# Altium schematic symbol library Yageo.SchLib: 231 symbols (part 2 of 3)
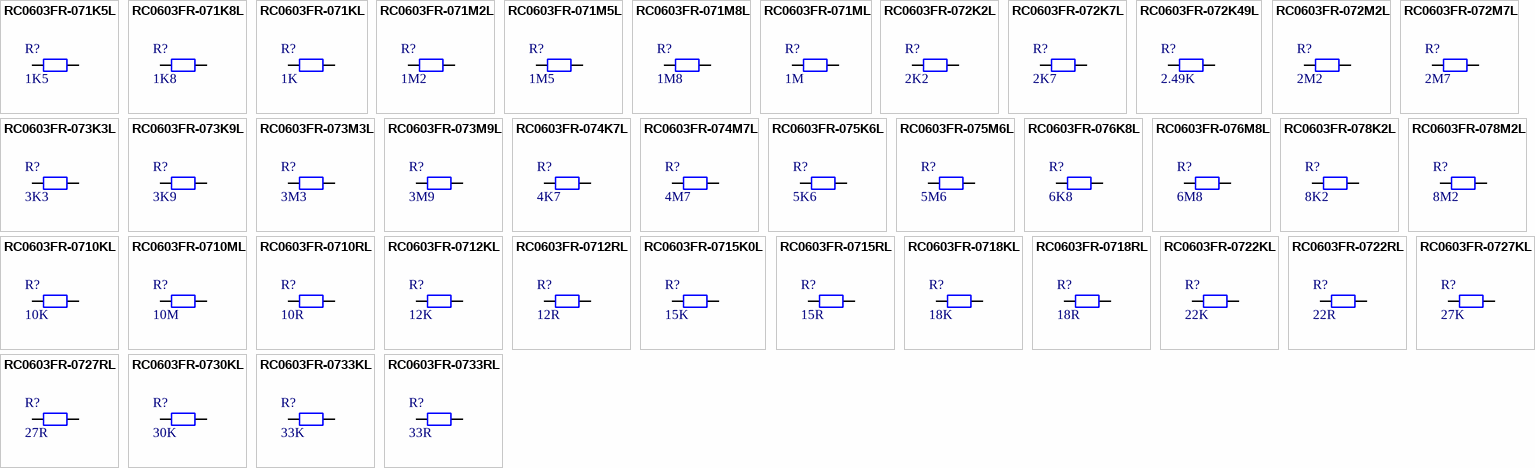
[diagram p6: symbols RC0603FR-071K5L to RC0603FR-0733RL]

## RC0603FR-072M2L
designator R?, comment 2M2
RES 2M2 SM0603 YAGEO RC_L; Manufacturer Part Number: RC0603FR-072M2L; Power (Watts): 0.1; Resistance (Ohms): 2200000; Tolerance (%): 1; Category: Resistor; Manufacturer: Yageo; Package: 0603; Value: 2M2; Supplier Part Number 1: 9238883; Supplier 1: Farnell; ComponentLink1URL: http://www.yageo.com; ComponentLink1Description: Manufacturer Website; Supplier 2: Digi-Key
footprint RES_SM0603_YAGEORC_N (Resistor, Yageo RC_L, SM0603, IPC Medium Density)
pins: 1, 2

## RC0603FR-072M7L
designator R?, comment 2M7
RES 2M7 SM0603 YAGEO RC_L; Manufacturer Part Number: RC0603FR-072M7L; Power (Watts): 0.1; Resistance (Ohms): 2700000; Tolerance (%): 1; Category: Resistor; Manufacturer: Yageo; Package: 0603; Value: 2M7; Supplier Part Number 1: 9238891; Supplier 1: Farnell; ComponentLink1URL: http://www.yageo.com; ComponentLink1Description: Manufacturer Website; Supplier 2: Digi-Key
footprint RES_SM0603_YAGEORC_N (Resistor, Yageo RC_L, SM0603, IPC Medium Density)
pins: 1, 2

## RC0603FR-073K3L
designator R?, comment 3K3
RES 3K3 SM0603 YAGEO RC_L; Manufacturer Part Number: RC0603FR-073K3L; Power (Watts): 0.1; Resistance (Ohms): 3300; Tolerance (%): 1; Category: Resistor; Manufacturer: Yageo; Package: 0603; Value: 3K3; Supplier Part Number 1: 9238549; Supplier 1: Farnell; ComponentLink1URL: http://www.yageo.com; ComponentLink1Description: Manufacturer Website; Supplier 2: Digi-Key; Supplier Part Number 2: 311-3.30KHRCT-ND
footprint RES_SM0603_YAGEORC_N (Resistor, Yageo RC_L, SM0603, IPC Medium Density)
pins: 1, 2

## RC0603FR-073K9L
designator R?, comment 3K9
RES 3K9 SM0603 YAGEO RC_L; Manufacturer Part Number: RC0603FR-073K9L; Power (Watts): 0.1; Resistance (Ohms): 3900; Tolerance (%): 1; Category: Resistor; Manufacturer: Yageo; Package: 0603; Value: 3K9; Supplier Part Number 1: 9238557; Supplier 1: Farnell; ComponentLink1URL: http://www.yageo.com; ComponentLink1Description: Manufacturer Website; Supplier 2: Digi-Key; Supplier Part Number 2: 311-3.90KHRCT-ND
footprint RES_SM0603_YAGEORC_N (Resistor, Yageo RC_L, SM0603, IPC Medium Density)
pins: 1, 2

## RC0603FR-073M3L
designator R?, comment 3M3
RES 3M3 SM0603 YAGEO RC_L; Manufacturer Part Number: RC0603FR-073M3L; Power (Watts): 0.1; Resistance (Ohms): 3300000; Tolerance (%): 1; Category: Resistor; Manufacturer: Yageo; Package: 0603; Value: 3M3; Supplier Part Number 1: 9238905; Supplier 1: Farnell; ComponentLink1URL: http://www.yageo.com; ComponentLink1Description: Manufacturer Website; Supplier 2: Digi-Key
footprint RES_SM0603_YAGEORC_N (Resistor, Yageo RC_L, SM0603, IPC Medium Density)
pins: 1, 2

## RC0603FR-073M9L
designator R?, comment 3M9
RES 3M9 SM0603 YAGEO RC_L; Manufacturer Part Number: RC0603FR-073M9L; Power (Watts): 0.1; Resistance (Ohms): 3900000; Tolerance (%): 1; Category: Resistor; Manufacturer: Yageo; Package: 0603; Value: 3M9; Supplier Part Number 1: 9238913; Supplier 1: Farnell; ComponentLink1URL: http://www.yageo.com; ComponentLink1Description: Manufacturer Website; Supplier 2: Digi-Key
footprint RES_SM0603_YAGEORC_N (Resistor, Yageo RC_L, SM0603, IPC Medium Density)
pins: 1, 2

## RC0603FR-074K7L
designator R?, comment 4K7
RES 4K7 SM0603 YAGEO RC_L; Manufacturer Part Number: RC0603FR-074K7L; Power (Watts): 0.1; Resistance (Ohms): 4700; Tolerance (%): 1; Category: Resistor; Manufacturer: Yageo; Package: 0603; Value: 4K7; Supplier Part Number 1: 9238565; Supplier 1: Farnell; ComponentLink1URL: http://www.yageo.com; ComponentLink1Description: Manufacturer Website; Supplier 2: Digi-Key; Supplier Part Number 2: 311-4.70KHRCT-ND
footprint RES_SM0603_YAGEORC_N (Resistor, Yageo RC_L, SM0603, IPC Medium Density)
pins: 1, 2

## RC0603FR-074M7L
designator R?, comment 4M7
RES 4M7 SM0603 YAGEO RC_L; Manufacturer Part Number: RC0603FR-074M7L; Power (Watts): 0.1; Resistance (Ohms): 4700000; Tolerance (%): 1; Category: Resistor; Manufacturer: Yageo; Package: 0603; Value: 4M7; Supplier Part Number 1: 9238921; Supplier 1: Farnell; ComponentLink1URL: http://www.yageo.com; ComponentLink1Description: Manufacturer Website; Supplier 2: Digi-Key; Supplier Part Number 2: 311-4.70MHRCT-ND
footprint RES_SM0603_YAGEORC_N (Resistor, Yageo RC_L, SM0603, IPC Medium Density)
pins: 1, 2

## RC0603FR-075K6L
designator R?, comment 5K6
RES 5K6 SM0603 YAGEO RC_L; Manufacturer Part Number: RC0603FR-075K6L; Power (Watts): 0.1; Resistance (Ohms): 5600; Tolerance (%): 1; Category: Resistor; Manufacturer: Yageo; Package: 0603; Value: 5K6; Supplier Part Number 1: 9238573; Supplier 1: Farnell; ComponentLink1URL: http://www.yageo.com; ComponentLink1Description: Manufacturer Website; Supplier 2: Digi-Key; Supplier Part Number 2: 311-5.60KHRCT-ND
footprint RES_SM0603_YAGEORC_N (Resistor, Yageo RC_L, SM0603, IPC Medium Density)
pins: 1, 2

## RC0603FR-075M6L
designator R?, comment 5M6
RES 5M6 SM0603 YAGEO RC_L; Manufacturer Part Number: RC0603FR-075M6L; Power (Watts): 0.1; Resistance (Ohms): 5600000; Tolerance (%): 1; Category: Resistor; Manufacturer: Yageo; Package: 0603; Value: 5M6; Supplier Part Number 1: 9238930; Supplier 1: Farnell; ComponentLink1URL: http://www.yageo.com; ComponentLink1Description: Manufacturer Website; Supplier 2: Digi-Key
footprint RES_SM0603_YAGEORC_N (Resistor, Yageo RC_L, SM0603, IPC Medium Density)
pins: 1, 2

## RC0603FR-076K8L
designator R?, comment 6K8
RES 6K8 SM0603 YAGEO RC_L; Manufacturer Part Number: RC0603FR-076K8L; Power (Watts): 0.1; Resistance (Ohms): 6800; Tolerance (%): 1; Category: Resistor; Manufacturer: Yageo; Package: 0603; Value: 6K8; Supplier Part Number 1: 9238581; Supplier 1: Farnell; ComponentLink1URL: http://www.yageo.com; ComponentLink1Description: Manufacturer Website; Supplier 2: Digi-Key; Supplier Part Number 2: 311-6.80KHRCT-ND
footprint RES_SM0603_YAGEORC_N (Resistor, Yageo RC_L, SM0603, IPC Medium Density)
pins: 1, 2

## RC0603FR-076M8L
designator R?, comment 6M8
RES 6M8 SM0603 YAGEO RC_L; Manufacturer Part Number: RC0603FR-076M8L; Power (Watts): 0.1; Resistance (Ohms): 6800000; Tolerance (%): 1; Category: Resistor; Manufacturer: Yageo; Package: 0603; Value: 6M8; Supplier Part Number 1: 9238948; Supplier 1: Farnell; ComponentLink1URL: http://www.yageo.com; ComponentLink1Description: Manufacturer Website; Supplier 2: Digi-Key
footprint RES_SM0603_YAGEORC_N (Resistor, Yageo RC_L, SM0603, IPC Medium Density)
pins: 1, 2

## RC0603FR-078K2L
designator R?, comment 8K2
RES 8K2 SM0603 YAGEO RC_L; Manufacturer Part Number: RC0603FR-078K2L; Power (Watts): 0.1; Resistance (Ohms): 8200; Tolerance (%): 1; Category: Resistor; Manufacturer: Yageo; Package: 0603; Value: 8K2; Supplier Part Number 1: 9238590; Supplier 1: Farnell; ComponentLink1URL: http://www.yageo.com; ComponentLink1Description: Manufacturer Website; Supplier 2: Digi-Key; Supplier Part Number 2: 311-8.20KHRCT-ND
footprint RES_SM0603_YAGEORC_N (Resistor, Yageo RC_L, SM0603, IPC Medium Density)
pins: 1, 2

## RC0603FR-078M2L
designator R?, comment 8M2
RES 8M2 SM0603 YAGEO RC_L; Manufacturer Part Number: RC0603FR-078M2L; Power (Watts): 0.1; Resistance (Ohms): 8200000; Tolerance (%): 1; Category: Resistor; Manufacturer: Yageo; Package: 0603; Value: 8M2; Supplier Part Number 1: 9238956; Supplier 1: Farnell; ComponentLink1URL: http://www.yageo.com; ComponentLink1Description: Manufacturer Website; Supplier 2: Digi-Key
footprint RES_SM0603_YAGEORC_N (Resistor, Yageo RC_L, SM0603, IPC Medium Density)
pins: 1, 2

## RC0603FR-0710KL
designator R?, comment 10K
RES 10K SM0603 YAGEO RC_L; Manufacturer Part Number: RC0603FR-0710KL; Power (Watts): 0.1; Resistance (Ohms): 10000; Tolerance (%): 1; Category: Resistor; Manufacturer: Yageo; Package: 0603; Value: 10K; Supplier Part Number 1: 9238603; Supplier 1: Farnell; ComponentLink1URL: http://www.yageo.com; ComponentLink1Description: Manufacturer Website; Supplier 2: Digi-Key; Supplier Part Number 2: 311-10.0KHRCT-ND
footprint RES_SM0603_YAGEORC_N (Resistor, Yageo RC_L, SM0603, IPC Medium Density)
pins: 1, 2

## RC0603FR-0710ML
designator R?, comment 10M
RES 10M SM0603 YAGEO RC_L; Manufacturer Part Number: RC0603FR-0710ML; Power (Watts): 0.1; Resistance (Ohms): 10000000; Tolerance (%): 1; Category: Resistor; Manufacturer: Yageo; Package: 0603; Value: 10M; Supplier Part Number 1: 9238964; Supplier 1: Farnell; ComponentLink1URL: http://www.yageo.com; ComponentLink1Description: Manufacturer Website; Supplier 2: Digi-Key; Supplier Part Number 2: 311-10.0MHRCT-ND
footprint RES_SM0603_YAGEORC_N (Resistor, Yageo RC_L, SM0603, IPC Medium Density)
pins: 1, 2

## RC0603FR-0710RL
designator R?, comment 10R
RES 10R SM0603 YAGEO RC_L; Manufacturer Part Number: RC0603FR-0710RL; Power (Watts): 0.1; Resistance (Ohms): 10; Tolerance (%): 1; Category: Resistor; Manufacturer: Yageo; Package: 0603; Value: 10R; Supplier Part Number 1: 9238247; Supplier 1: Farnell; ComponentLink1URL: http://www.yageo.com; ComponentLink1Description: Manufacturer Website; Supplier 2: Digi-Key; Supplier Part Number 2: 311-10.0HRCT-ND
footprint RES_SM0603_YAGEORC_N (Resistor, Yageo RC_L, SM0603, IPC Medium Density)
pins: 1, 2

## RC0603FR-0712KL
designator R?, comment 12K
RES 12K SM0603 YAGEO RC_L; Manufacturer Part Number: RC0603FR-0712KL; Power (Watts): 0.1; Resistance (Ohms): 12000; Tolerance (%): 1; Category: Resistor; Manufacturer: Yageo; Package: 0603; Value: 12K; Supplier Part Number 1: 9238611; Supplier 1: Farnell; ComponentLink1URL: http://www.yageo.com; ComponentLink1Description: Manufacturer Website; Supplier 2: Digi-Key; Supplier Part Number 2: 311-12.0KHRCT-ND
footprint RES_SM0603_YAGEORC_N (Resistor, Yageo RC_L, SM0603, IPC Medium Density)
pins: 1, 2

## RC0603FR-0712RL
designator R?, comment 12R
RES 12R SM0603 YAGEO RC_L; Manufacturer Part Number: RC0603FR-0712RL; Power (Watts): 0.1; Resistance (Ohms): 12; Tolerance (%): 1; Category: Resistor; Manufacturer: Yageo; Package: 0603; Value: 12R; Supplier Part Number 1: 9238255; Supplier 1: Farnell; ComponentLink1URL: http://www.yageo.com; ComponentLink1Description: Manufacturer Website; Supplier 2: Digi-Key; Supplier Part Number 2: 311-12.0HRCT-ND
footprint RES_SM0603_YAGEORC_N (Resistor, Yageo RC_L, SM0603, IPC Medium Density)
pins: 1, 2

## RC0603FR-0715K0L
designator R?, comment 15K
RES 15K SM0603 YAGEO RC_L; Manufacturer Part Number: RC0603FR-0715K0L; Power (Watts): 0.1; Resistance (Ohms): 15000; Tolerance (%): 1; Category: Resistor; Manufacturer: Yageo; Package: 0603; Value: 15K; Supplier Part Number 1: 9238620; Supplier 1: Farnell; ComponentLink1URL: http://www.yageo.com; ComponentLink1Description: Manufacturer Website; Supplier 2: Digi-Key
footprint RES_SM0603_YAGEORC_N (Resistor, Yageo RC_L, SM0603, IPC Medium Density)
pins: 1, 2

## RC0603FR-0715RL
designator R?, comment 15R
RES 15R SM0603 YAGEO RC_L; Manufacturer Part Number: RC0603FR-0715RL; Power (Watts): 0.1; Resistance (Ohms): 15; Tolerance (%): 1; Category: Resistor; Manufacturer: Yageo; Package: 0603; Value: 15R; Supplier Part Number 1: 9238263; Supplier 1: Farnell; ComponentLink1URL: http://www.yageo.com; ComponentLink1Description: Manufacturer Website; Supplier 2: Digi-Key; Supplier Part Number 2: 311-15.0HRCT-ND
footprint RES_SM0603_YAGEORC_N (Resistor, Yageo RC_L, SM0603, IPC Medium Density)
pins: 1, 2

## RC0603FR-0718KL
designator R?, comment 18K
RES 18K SM0603 YAGEO RC_L; Manufacturer Part Number: RC0603FR-0718KL; Power (Watts): 0.1; Resistance (Ohms): 18000; Tolerance (%): 1; Category: Resistor; Manufacturer: Yageo; Package: 0603; Value: 18K; Supplier Part Number 1: 9238638; Supplier 1: Farnell; ComponentLink1URL: http://www.yageo.com; ComponentLink1Description: Manufacturer Website; Supplier 2: Digi-Key; Supplier Part Number 2: 311-18.0KHRCT-ND
footprint RES_SM0603_YAGEORC_N (Resistor, Yageo RC_L, SM0603, IPC Medium Density)
pins: 1, 2

## RC0603FR-0718RL
designator R?, comment 18R
RES 18R SM0603 YAGEO RC_L; Manufacturer Part Number: RC0603FR-0718RL; Power (Watts): 0.1; Resistance (Ohms): 18; Tolerance (%): 1; Category: Resistor; Manufacturer: Yageo; Package: 0603; Value: 18R; Supplier Part Number 1: 9238271; Supplier 1: Farnell; ComponentLink1URL: http://www.yageo.com; ComponentLink1Description: Manufacturer Website; Supplier 2: Digi-Key; Supplier Part Number 2: 311-18.0HRCT-ND
footprint RES_SM0603_YAGEORC_N (Resistor, Yageo RC_L, SM0603, IPC Medium Density)
pins: 1, 2

## RC0603FR-0722KL
designator R?, comment 22K
RES 22K SM0603 YAGEO RC_L; Manufacturer Part Number: RC0603FR-0722KL; Power (Watts): 0.1; Resistance (Ohms): 22000; Tolerance (%): 1; Category: Resistor; Manufacturer: Yageo; Package: 0603; Value: 22K; Supplier Part Number 1: 9238646; Supplier 1: Farnell; ComponentLink1URL: http://www.yageo.com; ComponentLink1Description: Manufacturer Website; Supplier 2: Digi-Key; Supplier Part Number 2: 311-22.0KHRCT-ND
footprint RES_SM0603_YAGEORC_N (Resistor, Yageo RC_L, SM0603, IPC Medium Density)
pins: 1, 2

## RC0603FR-0722RL
designator R?, comment 22R
RES 22R SM0603 YAGEO RC_L; Manufacturer Part Number: RC0603FR-0722RL; Power (Watts): 0.1; Resistance (Ohms): 22; Tolerance (%): 1; Category: Resistor; Manufacturer: Yageo; Package: 0603; Value: 22R; Supplier Part Number 1: 9238280; Supplier 1: Farnell; ComponentLink1URL: http://www.yageo.com; ComponentLink1Description: Manufacturer Website; Supplier 2: Digi-Key; Supplier Part Number 2: 311-22.0HRCT-ND
footprint RES_SM0603_YAGEORC_N (Resistor, Yageo RC_L, SM0603, IPC Medium Density)
pins: 1, 2

## RC0603FR-0727KL
designator R?, comment 27K
RES 27K SM0603 YAGEO RC_L; Manufacturer Part Number: RC0603FR-0727KL; Power (Watts): 0.1; Resistance (Ohms): 27000; Tolerance (%): 1; Category: Resistor; Manufacturer: Yageo; Package: 0603; Value: 27K; Supplier Part Number 1: 9238654; Supplier 1: Farnell; ComponentLink1URL: http://www.yageo.com; ComponentLink1Description: Manufacturer Website; Supplier 2: Digi-Key; Supplier Part Number 2: 311-27.0KHRCT-ND
footprint RES_SM0603_YAGEORC_N (Resistor, Yageo RC_L, SM0603, IPC Medium Density)
pins: 1, 2

## RC0603FR-0727RL
designator R?, comment 27R
RES 27R SM0603 YAGEO RC_L; Manufacturer Part Number: RC0603FR-0727RL; Power (Watts): 0.1; Resistance (Ohms): 27; Tolerance (%): 1; Category: Resistor; Manufacturer: Yageo; Package: 0603; Value: 27R; Supplier Part Number 1: 9238298; Supplier 1: Farnell; ComponentLink1URL: http://www.yageo.com; ComponentLink1Description: Manufacturer Website; Supplier 2: Digi-Key; Supplier Part Number 2: 311-27.0HRCT-ND
footprint RES_SM0603_YAGEORC_N (Resistor, Yageo RC_L, SM0603, IPC Medium Density)
pins: 1, 2

## RC0603FR-0730KL
designator R?, comment 30K
RES 30K SM0603 YAGEO RC_L; Manufacturer Part Number: RC0603FR-0730KL; Power (Watts): 0.1; Resistance (Ohms): 30000; Tolerance (%): 1; Category: Resistor; Manufacturer: Yageo; Package: 0603; Value: 30K; Supplier Part Number 1: 9238662; Supplier 1: Farnell; ComponentLink1URL: http://www.yageo.com; ComponentLink1Description: Manufacturer Website; Supplier 2: Digi-Key; Supplier Part Number 2: 311-33.0KHRCT-ND
footprint RES_SM0603_YAGEORC_N (Resistor, Yageo RC_L, SM0603, IPC Medium Density)
pins: 1, 2

## RC0603FR-0733KL
designator R?, comment 33K
RES 33K SM0603 YAGEO RC_L; Manufacturer Part Number: RC0603FR-0733KL; Power (Watts): 0.1; Resistance (Ohms): 33000; Tolerance (%): 1; Category: Resistor; Manufacturer: Yageo; Package: 0603; Value: 33K; Supplier Part Number 1: 9238662; Supplier 1: Farnell; ComponentLink1URL: http://www.yageo.com; ComponentLink1Description: Manufacturer Website; Supplier 2: Digi-Key; Supplier Part Number 2: 311-33.0KHRCT-ND
footprint RES_SM0603_YAGEORC_N (Resistor, Yageo RC_L, SM0603, IPC Medium Density)
pins: 1, 2

## RC0603FR-0733RL
designator R?, comment 33R
RES 33R SM0603 YAGEO RC_L; Manufacturer Part Number: RC0603FR-0733RL; Power (Watts): 0.1; Resistance (Ohms): 33; Tolerance (%): 1; Category: Resistor; Manufacturer: Yageo; Package: 0603; Value: 33R; Supplier Part Number 1: 9238301; Supplier 1: Farnell; ComponentLink1URL: http://www.yageo.com; ComponentLink1Description: Manufacturer Website; Supplier 2: Digi-Key; Supplier Part Number 2: 311-33.0HRCT-ND
footprint RES_SM0603_YAGEORC_N (Resistor, Yageo RC_L, SM0603, IPC Medium Density)
pins: 1, 2

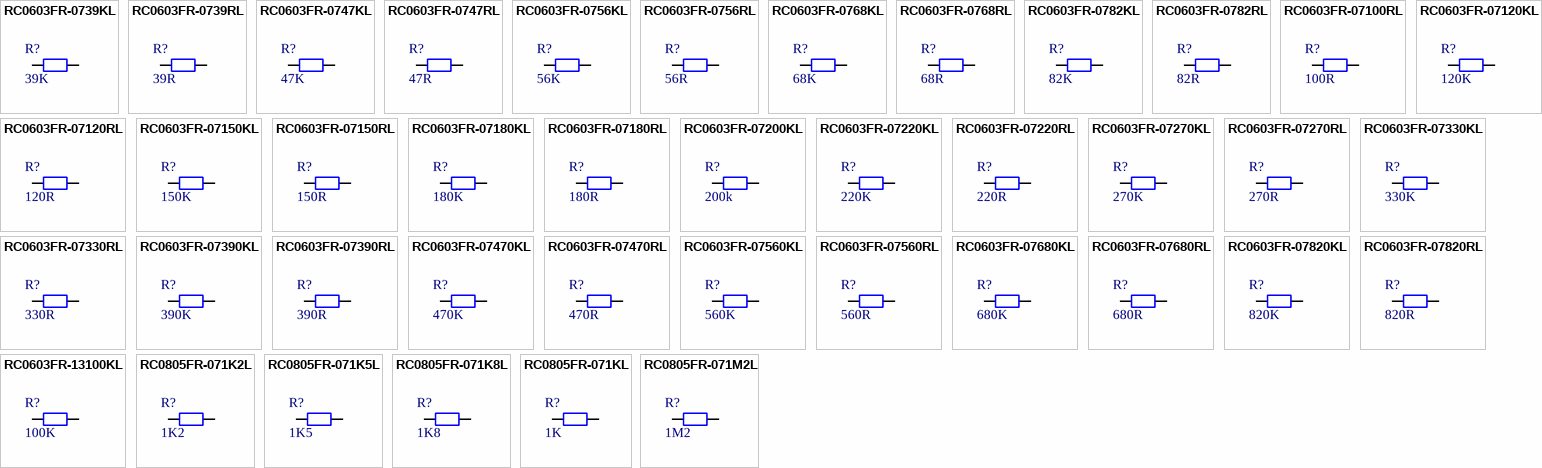
[diagram p3: symbols RC0603FR-0739KL to RC0805FR-071M2L]

## RC0603FR-0739KL
designator R?, comment 39K
RES 39K SM0603 YAGEO RC_L; Manufacturer Part Number: RC0603FR-0739KL; Power (Watts): 0.1; Resistance (Ohms): 39000; Tolerance (%): 1; Category: Resistor; Manufacturer: Yageo; Package: 0603; Value: 39K; Supplier Part Number 1: 9238670; Supplier 1: Farnell; ComponentLink1URL: http://www.yageo.com; ComponentLink1Description: Manufacturer Website; Supplier 2: Digi-Key; Supplier Part Number 2: 311-39.0KHRCT-ND
footprint RES_SM0603_YAGEORC_N (Resistor, Yageo RC_L, SM0603, IPC Medium Density)
pins: 1, 2

## RC0603FR-0739RL
designator R?, comment 39R
RES 39R SM0603 YAGEO RC_L; Manufacturer Part Number: RC0603FR-0739RL; Power (Watts): 0.1; Resistance (Ohms): 39; Tolerance (%): 1; Category: Resistor; Manufacturer: Yageo; Package: 0603; Value: 39R; Supplier Part Number 1: 9238310; Supplier 1: Farnell; ComponentLink1URL: http://www.yageo.com; ComponentLink1Description: Manufacturer Website; Supplier 2: Digi-Key; Supplier Part Number 2: 311-39.0HRCT-ND
footprint RES_SM0603_YAGEORC_N (Resistor, Yageo RC_L, SM0603, IPC Medium Density)
pins: 1, 2

## RC0603FR-0747KL
designator R?, comment 47K
RES 47K SM0603 YAGEO RC_L; Manufacturer Part Number: RC0603FR-0747KL; Power (Watts): 0.1; Resistance (Ohms): 47000; Tolerance (%): 1; Category: Resistor; Manufacturer: Yageo; Package: 0603; Value: 47K; Supplier Part Number 1: 9238689; Supplier 1: Farnell; ComponentLink1URL: http://www.yageo.com; ComponentLink1Description: Manufacturer Website; Supplier 2: Digi-Key; Supplier Part Number 2: 311-47.0KHRCT-ND
footprint RES_SM0603_YAGEORC_N (Resistor, Yageo RC_L, SM0603, IPC Medium Density)
pins: 1, 2

## RC0603FR-0747RL
designator R?, comment 47R
RES 47R SM0603 YAGEO RC_L; Manufacturer Part Number: RC0603FR-0747RL; Power (Watts): 0.1; Resistance (Ohms): 47; Tolerance (%): 1; Category: Resistor; Manufacturer: Yageo; Package: 0603; Value: 47R; Supplier Part Number 1: 9238328; Supplier 1: Farnell; ComponentLink1URL: http://www.yageo.com; ComponentLink1Description: Manufacturer Website; Supplier 2: Digi-Key; Supplier Part Number 2: 311-47.0HRCT-ND
footprint RES_SM0603_YAGEORC_N (Resistor, Yageo RC_L, SM0603, IPC Medium Density)
pins: 1, 2

## RC0603FR-0756KL
designator R?, comment 56K
RES 56K SM0603 YAGEO RC_L; Manufacturer Part Number: RC0603FR-0756KL; Power (Watts): 0.1; Resistance (Ohms): 56000; Tolerance (%): 1; Category: Resistor; Manufacturer: Yageo; Package: 0603; Value: 56K; Supplier Part Number 1: 9238697; Supplier 1: Farnell; ComponentLink1URL: http://www.yageo.com; ComponentLink1Description: Manufacturer Website; Supplier 2: Digi-Key; Supplier Part Number 2: 311-56KHRCT-ND
footprint RES_SM0603_YAGEORC_N (Resistor, Yageo RC_L, SM0603, IPC Medium Density)
pins: 1, 2

## RC0603FR-0756RL
designator R?, comment 56R
RES 56R SM0603 YAGEO RC_L; Manufacturer Part Number: RC0603FR-0756RL; Power (Watts): 0.1; Resistance (Ohms): 56; Tolerance (%): 1; Category: Resistor; Manufacturer: Yageo; Package: 0603; Value: 56R; Supplier Part Number 1: 9238336; Supplier 1: Farnell; ComponentLink1URL: http://www.yageo.com; ComponentLink1Description: Manufacturer Website; Supplier 2: Digi-Key; Supplier Part Number 2: 311-56.0HRCT-ND
footprint RES_SM0603_YAGEORC_N (Resistor, Yageo RC_L, SM0603, IPC Medium Density)
pins: 1, 2

## RC0603FR-0768KL
designator R?, comment 68K
RES 68K SM0603 YAGEO RC_L; Manufacturer Part Number: RC0603FR-0768KL; Power (Watts): 0.1; Resistance (Ohms): 68000; Tolerance (%): 1; Category: Resistor; Manufacturer: Yageo; Package: 0603; Value: 68K; Supplier Part Number 1: 9238700; Supplier 1: Farnell; ComponentLink1URL: http://www.yageo.com; ComponentLink1Description: Manufacturer Website; Supplier 2: Digi-Key; Supplier Part Number 2: 311-68.0KHRCT-ND
footprint RES_SM0603_YAGEORC_N (Resistor, Yageo RC_L, SM0603, IPC Medium Density)
pins: 1, 2

## RC0603FR-0768RL
designator R?, comment 68R
RES 68R SM0603 YAGEO RC_L; Manufacturer Part Number: RC0603FR-0768RL; Power (Watts): 0.1; Resistance (Ohms): 68; Tolerance (%): 1; Category: Resistor; Manufacturer: Yageo; Package: 0603; Value: 68R; Supplier Part Number 1: 9238344; Supplier 1: Farnell; ComponentLink1URL: http://www.yageo.com; ComponentLink1Description: Manufacturer Website; Supplier 2: Digi-Key; Supplier Part Number 2: 311-68.0HRCT-ND
footprint RES_SM0603_YAGEORC_N (Resistor, Yageo RC_L, SM0603, IPC Medium Density)
pins: 1, 2

## RC0603FR-0782KL
designator R?, comment 82K
RES 82K SM0603 YAGEO RC_L; Manufacturer Part Number: RC0603FR-0782KL; Power (Watts): 0.1; Resistance (Ohms): 82000; Tolerance (%): 1; Category: Resistor; Manufacturer: Yageo; Package: 0603; Value: 82K; Supplier Part Number 1: 9238719; Supplier 1: Farnell; ComponentLink1URL: http://www.yageo.com; ComponentLink1Description: Manufacturer Website; Supplier 2: Digi-Key; Supplier Part Number 2: 311-82.0KHRCT-ND
footprint RES_SM0603_YAGEORC_N (Resistor, Yageo RC_L, SM0603, IPC Medium Density)
pins: 1, 2

## RC0603FR-0782RL
designator R?, comment 82R
RES 82R SM0603 YAGEO RC_L; Manufacturer Part Number: RC0603FR-0782RL; Power (Watts): 0.1; Resistance (Ohms): 82; Tolerance (%): 1; Category: Resistor; Manufacturer: Yageo; Package: 0603; Value: 82R; Supplier Part Number 1: 9238352; Supplier 1: Farnell; ComponentLink1URL: http://www.yageo.com; ComponentLink1Description: Manufacturer Website; Supplier 2: Digi-Key; Supplier Part Number 2: 311-82.0HRCT-ND
footprint RES_SM0603_YAGEORC_N (Resistor, Yageo RC_L, SM0603, IPC Medium Density)
pins: 1, 2

## RC0603FR-07100RL
designator R?, comment 100R
RES 100R SM0603 YAGEO RC_L; Manufacturer Part Number: RC0603FR-07100RL; Power (Watts): 0.1; Resistance (Ohms): 100; Tolerance (%): 1; Category: Resistor; Manufacturer: Yageo; Package: 0603; Value: 100R; Supplier Part Number 1: 9238360; Supplier 1: Farnell; ComponentLink1URL: http://www.yageo.com; ComponentLink1Description: Manufacturer Website; Supplier 2: Digi-Key; Supplier Part Number 2: 311-100HRCT-ND
footprint RES_SM0603_YAGEORC_N (Resistor, Yageo RC_L, SM0603, IPC Medium Density)
pins: 1, 2

## RC0603FR-07120KL
designator R?, comment 120K
RES 120K SM0603 YAGEO RC_L; Manufacturer Part Number: RC0603FR-07120KL; Power (Watts): 0.1; Resistance (Ohms): 120000; Tolerance (%): 1; Category: Resistor; Manufacturer: Yageo; Package: 0603; Value: 120K; Supplier Part Number 1: 9238735; Supplier 1: Farnell; ComponentLink1URL: http://www.yageo.com; ComponentLink1Description: Manufacturer Website; Supplier 2: Digi-Key; Supplier Part Number 2: 311-120KHRCT-ND
footprint RES_SM0603_YAGEORC_N (Resistor, Yageo RC_L, SM0603, IPC Medium Density)
pins: 1, 2

## RC0603FR-07120RL
designator R?, comment 120R
RES 120R SM0603 YAGEO RC_L; Manufacturer Part Number: RC0603FR-07120RL; Power (Watts): 0.1; Resistance (Ohms): 120; Tolerance (%): 1; Category: Resistor; Manufacturer: Yageo; Package: 0603; Value: 120R; Supplier Part Number 1: 9238379; Supplier 1: Farnell; ComponentLink1URL: http://www.yageo.com; ComponentLink1Description: Manufacturer Website; Supplier 2: Digi-Key; Supplier Part Number 2: 311-120HRCT-ND
footprint RES_SM0603_YAGEORC_N (Resistor, Yageo RC_L, SM0603, IPC Medium Density)
pins: 1, 2

## RC0603FR-07150KL
designator R?, comment 150K
RES 150K SM0603 YAGEO RC_L; Manufacturer Part Number: RC0603FR-07150KL; Power (Watts): 0.1; Resistance (Ohms): 150000; Tolerance (%): 1; Category: Resistor; Manufacturer: Yageo; Package: 0603; Value: 150K; Supplier Part Number 1: 9238743; Supplier 1: Farnell; ComponentLink1URL: http://www.yageo.com; ComponentLink1Description: Manufacturer Website; Supplier 2: Digi-Key; Supplier Part Number 2: 311-150KHRCT-ND
footprint RES_SM0603_YAGEORC_N (Resistor, Yageo RC_L, SM0603, IPC Medium Density)
pins: 1, 2

## RC0603FR-07150RL
designator R?, comment 150R
RES 150R SM0603 YAGEO RC_L; Manufacturer Part Number: RC0603FR-07150RL; Power (Watts): 0.1; Resistance (Ohms): 150; Tolerance (%): 1; Category: Resistor; Manufacturer: Yageo; Package: 0603; Value: 150R; Supplier Part Number 1: 9238387; Supplier 1: Farnell; ComponentLink1URL: http://www.yageo.com; ComponentLink1Description: Manufacturer Website; Supplier 2: Digi-Key; Supplier Part Number 2: 311-150HRCT-ND
footprint RES_SM0603_YAGEORC_N (Resistor, Yageo RC_L, SM0603, IPC Medium Density)
pins: 1, 2

## RC0603FR-07180KL
designator R?, comment 180K
RES 180K SM0603 YAGEO RC_L; Manufacturer Part Number: RC0603FR-07180KL; Power (Watts): 0.1; Resistance (Ohms): 180000; Tolerance (%): 1; Category: Resistor; Manufacturer: Yageo; Package: 0603; Value: 180K; Supplier Part Number 1: 9238751; Supplier 1: Farnell; ComponentLink1URL: http://www.yageo.com; ComponentLink1Description: Manufacturer Website; Supplier 2: Digi-Key; Supplier Part Number 2: 311-180KHRCT-ND
footprint RES_SM0603_YAGEORC_N (Resistor, Yageo RC_L, SM0603, IPC Medium Density)
pins: 1, 2

## RC0603FR-07180RL
designator R?, comment 180R
RES 180R SM0603 YAGEO RC_L; Manufacturer Part Number: RC0603FR-07180RL; Power (Watts): 0.1; Resistance (Ohms): 180; Tolerance (%): 1; Category: Resistor; Manufacturer: Yageo; Package: 0603; Value: 180R; Supplier Part Number 1: 9238395; Supplier 1: Farnell; ComponentLink1URL: http://www.yageo.com; ComponentLink1Description: Manufacturer Website; Supplier 2: Digi-Key; Supplier Part Number 2: 311-180HRCT-ND
footprint RES_SM0603_YAGEORC_N (Resistor, Yageo RC_L, SM0603, IPC Medium Density)
pins: 1, 2

## RC0603FR-07200KL
designator R?, comment 200k
RES 200K SM0603 YAGEO RC_L; Manufacturer Part Number: RC0603FR-07200KL; Power (Watts): 0.1; Resistance (Ohms): 200000; Tolerance (%): 1; Category: Resistor; Manufacturer: Yageo; Package: 0603; Value: 200k; ComponentLink1URL: http://www.yageo.com; ComponentLink1Description: Manufacturer Website
footprint RES_SM0603_YAGEORC_N (Resistor, Yageo RC_L, SM0603, IPC Medium Density)
pins: 1, 2

## RC0603FR-07220KL
designator R?, comment 220K
RES 220K SM0603 YAGEO RC_L; Manufacturer Part Number: RC0603FR-07220KL; Power (Watts): 0.1; Resistance (Ohms): 220000; Tolerance (%): 1; Category: Resistor; Manufacturer: Yageo; Package: 0603; Value: 220K; Supplier Part Number 1: 9238760; Supplier 1: Farnell; ComponentLink1URL: http://www.yageo.com; ComponentLink1Description: Manufacturer Website; Supplier 2: Digi-Key; Supplier Part Number 2: 311-220KHRCT-ND
footprint RES_SM0603_YAGEORC_N (Resistor, Yageo RC_L, SM0603, IPC Medium Density)
pins: 1, 2

## RC0603FR-07220RL
designator R?, comment 220R
RES 220R SM0603 YAGEO RC_L; Manufacturer Part Number: RC0603FR-07220RL; Power (Watts): 0.1; Resistance (Ohms): 220; Tolerance (%): 1; Category: Resistor; Manufacturer: Yageo; Package: 0603; Value: 220R; Supplier Part Number 1: 2421863; Supplier 1: Farnell; ComponentLink1URL: http://www.yageo.com; ComponentLink1Description: Manufacturer Website; Supplier 2: Digi-Key; Supplier Part Number 2: 311-220HRCT-ND
footprint RES_SM0603_YAGEORC_N (Resistor, Yageo RC_L, SM0603, IPC Medium Density)
pins: 1, 2

## RC0603FR-07270KL
designator R?, comment 270K
RES 270K SM0603 YAGEO RC_L; Manufacturer Part Number: RC0603FR-07270KL; Power (Watts): 0.1; Resistance (Ohms): 270000; Tolerance (%): 1; Category: Resistor; Manufacturer: Yageo; Package: 0603; Value: 270K; Supplier Part Number 1: 9238778; Supplier 1: Farnell; ComponentLink1URL: http://www.yageo.com; ComponentLink1Description: Manufacturer Website; Supplier 2: Digi-Key; Supplier Part Number 2: 311-270KHRCT-ND
footprint RES_SM0603_YAGEORC_N (Resistor, Yageo RC_L, SM0603, IPC Medium Density)
pins: 1, 2

## RC0603FR-07270RL
designator R?, comment 270R
RES 270R SM0603 YAGEO RC_L; Manufacturer Part Number: RC0603FR-07270RL; Power (Watts): 0.1; Resistance (Ohms): 270; Tolerance (%): 1; Category: Resistor; Manufacturer: Yageo; Package: 0603; Value: 270R; Supplier Part Number 1: 9238417; Supplier 1: Farnell; ComponentLink1URL: http://www.yageo.com; ComponentLink1Description: Manufacturer Website; Supplier 2: Digi-Key; Supplier Part Number 2: 311-270HRCT-ND
footprint RES_SM0603_YAGEORC_N (Resistor, Yageo RC_L, SM0603, IPC Medium Density)
pins: 1, 2

## RC0603FR-07330KL
designator R?, comment 330K
RES 330K SM0603 YAGEO RC_L; Manufacturer Part Number: RC0603FR-07330KL; Power (Watts): 0.1; Resistance (Ohms): 330000; Tolerance (%): 1; Category: Resistor; Manufacturer: Yageo; Package: 0603; Value: 330K; Supplier Part Number 1: 9238786; Supplier 1: Farnell; ComponentLink1URL: http://www.yageo.com; ComponentLink1Description: Manufacturer Website; Supplier 2: Digi-Key; Supplier Part Number 2: 311-330KHRCT-ND
footprint RES_SM0603_YAGEORC_N (Resistor, Yageo RC_L, SM0603, IPC Medium Density)
pins: 1, 2

## RC0603FR-07330RL
designator R?, comment 330R
RES 330R SM0603 YAGEO RC_L; Manufacturer Part Number: RC0603FR-07330RL; Power (Watts): 0.1; Resistance (Ohms): 330; Tolerance (%): 1; Category: Resistor; Manufacturer: Yageo; Package: 0603; Value: 330R; Supplier Part Number 1: 9238425; Supplier 1: Farnell; ComponentLink1URL: http://www.yageo.com; ComponentLink1Description: Manufacturer Website; Supplier 2: Digi-Key; Supplier Part Number 2: 311-330HRCT-ND
footprint RES_SM0603_YAGEORC_N (Resistor, Yageo RC_L, SM0603, IPC Medium Density)
pins: 1, 2

## RC0603FR-07390KL
designator R?, comment 390K
RES 390K SM0603 YAGEO RC_L; Manufacturer Part Number: RC0603FR-07390KL; Power (Watts): 0.1; Resistance (Ohms): 390000; Tolerance (%): 1; Category: Resistor; Manufacturer: Yageo; Package: 0603; Value: 390K; Supplier Part Number 1: 9238794; Supplier 1: Farnell; ComponentLink1URL: http://www.yageo.com; ComponentLink1Description: Manufacturer Website; Supplier 2: Digi-Key; Supplier Part Number 2: 311-390KHRCT-ND
footprint RES_SM0603_YAGEORC_N (Resistor, Yageo RC_L, SM0603, IPC Medium Density)
pins: 1, 2

## RC0603FR-07390RL
designator R?, comment 390R
RES 390R SM0603 YAGEO RC_L; Manufacturer Part Number: RC0603FR-07390RL; Power (Watts): 0.1; Resistance (Ohms): 390; Tolerance (%): 1; Category: Resistor; Manufacturer: Yageo; Package: 0603; Value: 390R; Supplier Part Number 1: 9238433; Supplier 1: Farnell; ComponentLink1URL: http://www.yageo.com; ComponentLink1Description: Manufacturer Website; Supplier 2: Digi-Key; Supplier Part Number 2: 311-390HRCT-ND
footprint RES_SM0603_YAGEORC_N (Resistor, Yageo RC_L, SM0603, IPC Medium Density)
pins: 1, 2

## RC0603FR-07470KL
designator R?, comment 470K
RES 470K SM0603 YAGEO RC_L; Manufacturer Part Number: RC0603FR-07470KL; Power (Watts): 0.1; Resistance (Ohms): 470000; Tolerance (%): 1; Category: Resistor; Manufacturer: Yageo; Package: 0603; Value: 470K; Supplier Part Number 1: 9238808; Supplier 1: Farnell; ComponentLink1URL: http://www.yageo.com; ComponentLink1Description: Manufacturer Website; Supplier 2: Digi-Key; Supplier Part Number 2: 311-470KHRCT-ND
footprint RES_SM0603_YAGEORC_N (Resistor, Yageo RC_L, SM0603, IPC Medium Density)
pins: 1, 2

## RC0603FR-07470RL
designator R?, comment 470R
RES 470R SM0603 YAGEO RC_L; Manufacturer Part Number: RC0603FR-07470RL; Power (Watts): 0.1; Resistance (Ohms): 470; Tolerance (%): 1; Category: Resistor; Manufacturer: Yageo; Package: 0603; Value: 470R; Supplier Part Number 1: 2421875; Supplier 1: Farnell; ComponentLink1URL: http://www.yageo.com; ComponentLink1Description: Manufacturer Website; Supplier 2: Digi-Key; Supplier Part Number 2: 311-470HRCT-ND
footprint RES_SM0603_YAGEORC_N (Resistor, Yageo RC_L, SM0603, IPC Medium Density)
pins: 1, 2

## RC0603FR-07560KL
designator R?, comment 560K
RES 560K SM0603 YAGEO RC_L; Manufacturer Part Number: RC0603FR-07560KL; Power (Watts): 0.1; Resistance (Ohms): 560000; Tolerance (%): 1; Category: Resistor; Manufacturer: Yageo; Package: 0603; Value: 560K; Supplier Part Number 1: 9238816; Supplier 1: Farnell; ComponentLink1URL: http://www.yageo.com; ComponentLink1Description: Manufacturer Website; Supplier 2: Digi-Key; Supplier Part Number 2: 311-560KHRCT-ND
footprint RES_SM0603_YAGEORC_N (Resistor, Yageo RC_L, SM0603, IPC Medium Density)
pins: 1, 2

## RC0603FR-07560RL
designator R?, comment 560R
RES 560R SM0603 YAGEO RC_L; Manufacturer Part Number: RC0603FR-07560RL; Power (Watts): 0.1; Resistance (Ohms): 560; Tolerance (%): 1; Category: Resistor; Manufacturer: Yageo; Package: 0603; Value: 560R; Supplier Part Number 1: 9238450; Supplier 1: Farnell; ComponentLink1URL: http://www.yageo.com; ComponentLink1Description: Manufacturer Website; Supplier 2: Digi-Key; Supplier Part Number 2: 311-560HRCT-ND
footprint RES_SM0603_YAGEORC_N (Resistor, Yageo RC_L, SM0603, IPC Medium Density)
pins: 1, 2

## RC0603FR-07680KL
designator R?, comment 680K
RES 680K SM0603 YAGEO RC_L; Manufacturer Part Number: RC0603FR-07680KL; Power (Watts): 0.1; Resistance (Ohms): 680000; Tolerance (%): 1; Category: Resistor; Manufacturer: Yageo; Package: 0603; Value: 680K; Supplier Part Number 1: 9238824; Supplier 1: Farnell; ComponentLink1URL: http://www.yageo.com; ComponentLink1Description: Manufacturer Website; Supplier 2: Digi-Key; Supplier Part Number 2: 311-680KHRCT-ND
footprint RES_SM0603_YAGEORC_N (Resistor, Yageo RC_L, SM0603, IPC Medium Density)
pins: 1, 2

## RC0603FR-07680RL
designator R?, comment 680R
RES 680R SM0603 YAGEO RC_L; Manufacturer Part Number: RC0603FR-07680RL; Power (Watts): 0.1; Resistance (Ohms): 680; Tolerance (%): 1; Category: Resistor; Manufacturer: Yageo; Package: 0603; Value: 680R; Supplier Part Number 1: 9238468; Supplier 1: Farnell; ComponentLink1URL: http://www.yageo.com; ComponentLink1Description: Manufacturer Website; Supplier 2: Digi-Key; Supplier Part Number 2: 311-680HRCT-ND
footprint RES_SM0603_YAGEORC_N (Resistor, Yageo RC_L, SM0603, IPC Medium Density)
pins: 1, 2

## RC0603FR-07820KL
designator R?, comment 820K
RES 820K SM0603 YAGEO RC_L; Manufacturer Part Number: RC0603FR-07820KL; Power (Watts): 0.1; Resistance (Ohms): 820000; Tolerance (%): 1; Category: Resistor; Manufacturer: Yageo; Package: 0603; Value: 820K; Supplier Part Number 1: 9238832; Supplier 1: Farnell; ComponentLink1URL: http://www.yageo.com; ComponentLink1Description: Manufacturer Website; Supplier 2: Digi-Key; Supplier Part Number 2: 311-820KHRCT-ND
footprint RES_SM0603_YAGEORC_N (Resistor, Yageo RC_L, SM0603, IPC Medium Density)
pins: 1, 2

## RC0603FR-07820RL
designator R?, comment 820R
RES 820R SM0603 YAGEO RC_L; Manufacturer Part Number: RC0603FR-07820RL; Power (Watts): 0.1; Resistance (Ohms): 820; Tolerance (%): 1; Category: Resistor; Manufacturer: Yageo; Package: 0603; Value: 820R; Supplier Part Number 1: 9238476; Supplier 1: Farnell; ComponentLink1URL: http://www.yageo.com; ComponentLink1Description: Manufacturer Website; Supplier 2: Digi-Key; Supplier Part Number 2: 311-820HRCT-ND
footprint RES_SM0603_YAGEORC_N (Resistor, Yageo RC_L, SM0603, IPC Medium Density)
pins: 1, 2

## RC0603FR-13100KL
designator R?, comment 100K
RES 100K SM0603 YAGEO RC_L; Manufacturer Part Number: RC0603FR-13100KL; Power (Watts): 0.1; Resistance (Ohms): 100000; Tolerance (%): 1; Category: Resistor; Manufacturer: Yageo; Package: 0603; Value: 100K; Supplier Part Number 1: 2309107; Supplier 1: Farnell; ComponentLink1URL: http://www.yageo.com; ComponentLink1Description: Manufacturer Website; Supplier 2: Digi-Key
footprint RES_SM0603_YAGEORC_N (Resistor, Yageo RC_L, SM0603, IPC Medium Density)
pins: 1, 2

## RC0805FR-071K2L
designator R?, comment 1K2
RES 1K2 SM0805 YAGEO RC_L; Manufacturer Part Number: RC0805FR-071K2L; Power (Watts): 0.125; Resistance (Ohms): 1200; Tolerance (%): 1; Category: Resistor; Manufacturer: Yageo; Package: 0805; Value: 1K2; Supplier Part Number 1: 9237500; Supplier 1: Farnell; ComponentLink1Description: Manufacturer Website; ComponentLink1URL: http://www.yageo.com; Supplier 2: Digi-Key; Supplier Part Number 2: 311-1.20KCRCT-ND
footprint RES_SM0805_YAGEORC_N (Resistor, Yageo RC_L, SM0805, IPC Medium Density)
pins: 1, 2

## RC0805FR-071K5L
designator R?, comment 1K5
RES 1K5 SM0805 YAGEO RC_L; Manufacturer Part Number: RC0805FR-071K5L; Power (Watts): 0.125; Resistance (Ohms): 1500; Tolerance (%): 1; Category: Resistor; Manufacturer: Yageo; Package: 0805; Value: 1K5; Supplier Part Number 1: 9237518; Supplier 1: Farnell; ComponentLink1Description: Manufacturer Website; ComponentLink1URL: http://www.yageo.com; Supplier 2: Digi-Key; Supplier Part Number 2: 311-1.50KCRCT-ND
footprint RES_SM0805_YAGEORC_N (Resistor, Yageo RC_L, SM0805, IPC Medium Density)
pins: 1, 2

## RC0805FR-071K8L
designator R?, comment 1K8
RES 1K8 SM0805 YAGEO RC_L; Manufacturer Part Number: RC0805FR-071K8L; Power (Watts): 0.125; Resistance (Ohms): 1800; Tolerance (%): 1; Category: Resistor; Manufacturer: Yageo; Package: 0805; Value: 1K8; Supplier Part Number 1: 9237526; Supplier 1: Farnell; ComponentLink1Description: Manufacturer Website; ComponentLink1URL: http://www.yageo.com; Supplier 2: Digi-Key; Supplier Part Number 2: 311-1.80KCRCT-ND
footprint RES_SM0805_YAGEORC_N (Resistor, Yageo RC_L, SM0805, IPC Medium Density)
pins: 1, 2

## RC0805FR-071KL
designator R?, comment 1K
RES 1K SM0805 YAGEO RC_L; Manufacturer Part Number: RC0805FR-071KL; Power (Watts): 0.125; Resistance (Ohms): 1000; Tolerance (%): 1; Category: Resistor; Manufacturer: Yageo; Package: 0805; Value: 1K; Supplier Part Number 1: 9237496; Supplier 1: Farnell; ComponentLink1URL: http://www.yageo.com; ComponentLink1Description: Manufacturer Website; Supplier 2: Digi-Key; Supplier Part Number 2: 311-1.00KCRCT-ND; Datasheet: https://www.yageo.com/upload/media/product/app/datasheet/rchip/pyu-rc_group_51_rohs_l.pdf
footprint RES_SM0805_YAGEORC_N (Resistor, Yageo RC_L, SM0805, IPC Medium Density)
pins: 1, 2

## RC0805FR-071M2L
designator R?, comment 1M2
RES 1M2 SM0805 YAGEO RC_L; Manufacturer Part Number: RC0805FR-071M2L; Power (Watts): 0.125; Resistance (Ohms): 1200000; Tolerance (%): 1; Category: Resistor; Manufacturer: Yageo; Package: 0805; Value: 1M2; Supplier Part Number 1: 9238000; Supplier 1: Farnell; ComponentLink1Description: Manufacturer Website; ComponentLink1URL: http://www.yageo.com; Supplier 2: Digi-Key; Supplier Part Number 2: 311-1.20MCRCT-ND
footprint RES_SM0805_YAGEORC_N (Resistor, Yageo RC_L, SM0805, IPC Medium Density)
pins: 1, 2

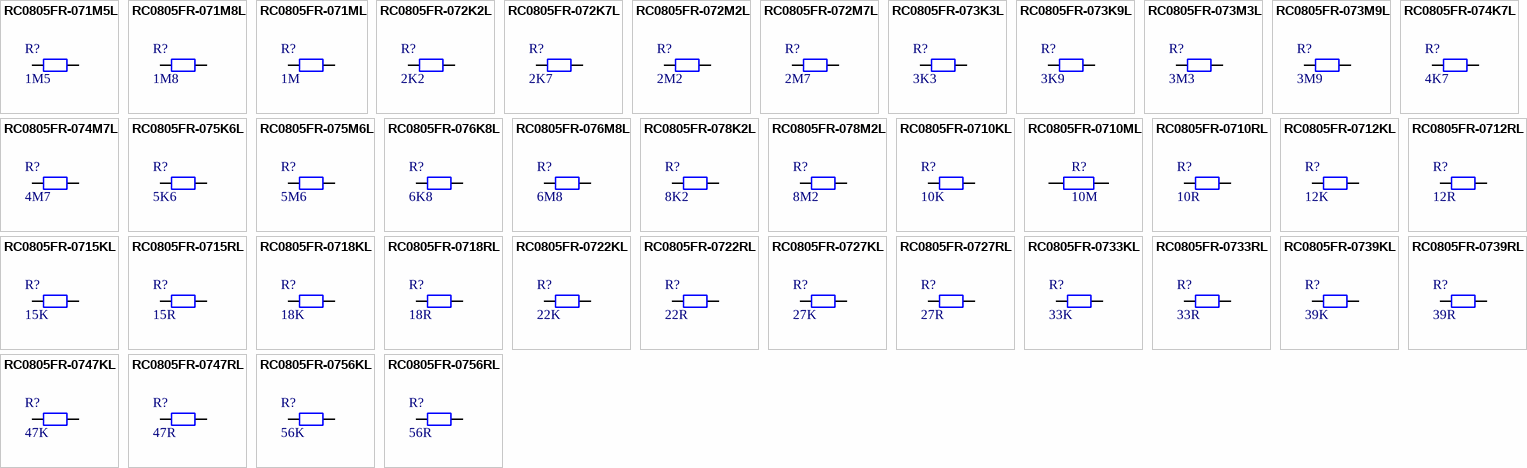
[diagram p4: symbols RC0805FR-071M5L to RC0805FR-0756RL]

## RC0805FR-071M5L
designator R?, comment 1M5
RES 1M5 SM0805 YAGEO RC_L; Manufacturer Part Number: RC0805FR-071M5L; Power (Watts): 0.125; Resistance (Ohms): 1500000; Tolerance (%): 1; Category: Resistor; Manufacturer: Yageo; Package: 0805; Value: 1M5; Supplier Part Number 1: 9238018; Supplier 1: Farnell; ComponentLink1URL: http://www.yageo.com; ComponentLink1Description: Manufacturer Website; Supplier 2: Digi-Key; Supplier Part Number 2: 311-1.50MCRCT-ND
footprint RES_SM0805_YAGEORC_N (Resistor, Yageo RC_L, SM0805, IPC Medium Density)
pins: 1, 2

## RC0805FR-071M8L
designator R?, comment 1M8
RES 1M8 SM0805 YAGEO RC_L; Manufacturer Part Number: RC0805FR-071M8L; Power (Watts): 0.125; Resistance (Ohms): 1800000; Tolerance (%): 1; Category: Resistor; Manufacturer: Yageo; Package: 0805; Value: 1M8; Supplier Part Number 1: 9238026; Supplier 1: Farnell; ComponentLink1Description: Manufacturer Website; ComponentLink1URL: http://www.yageo.com; Supplier 2: Digi-Key; Supplier Part Number 2: 311-1.80MCRCT-ND
footprint RES_SM0805_YAGEORC_N (Resistor, Yageo RC_L, SM0805, IPC Medium Density)
pins: 1, 2

## RC0805FR-071ML
designator R?, comment 1M
RES 1M SM0805 YAGEO RC_L; Manufacturer Part Number: RC0805FR-071ML; Power (Watts): 0.125; Resistance (Ohms): 1000000; Tolerance (%): 1; Category: Resistor; Manufacturer: Yageo; Package: 0805; Value: 1M; Supplier Part Number 1: 9237992; Supplier 1: Farnell; ComponentLink1URL: http://www.yageo.com; ComponentLink1Description: Manufacturer Website; Supplier 2: Digi-Key; Supplier Part Number 2: 311-1.00MCRCT-ND; Datasheet: https://www.yageo.com/upload/media/product/productsearch/datasheet/rchip/PYu-RC_Group_51_RoHS_L_12.pdf
footprint RES_SM0805_YAGEORC_N (Resistor, Yageo RC_L, SM0805, IPC Medium Density)
pins: 1, 2

## RC0805FR-072K2L
designator R?, comment 2K2
RES 2K2 SM0805 YAGEO RC_L; Manufacturer Part Number: RC0805FR-072K2L; Power (Watts): 0.125; Resistance (Ohms): 2200; Tolerance (%): 1; Category: Resistor; Manufacturer: Yageo; Package: 0805; Value: 2K2; Supplier Part Number 1: 9237534; Supplier 1: Farnell; ComponentLink1Description: Manufacturer Website; ComponentLink1URL: http://www.yageo.com; Supplier 2: Digi-Key; Supplier Part Number 2: 311-2.20KCRCT-ND
footprint RES_SM0805_YAGEORC_N (Resistor, Yageo RC_L, SM0805, IPC Medium Density)
pins: 1, 2

## RC0805FR-072K7L
designator R?, comment 2K7
RES 2K7 SM0805 YAGEO RC_L; Manufacturer Part Number: RC0805FR-072K7L; Power (Watts): 0.125; Resistance (Ohms): 2700; Tolerance (%): 1; Category: Resistor; Manufacturer: Yageo; Package: 0805; Value: 2K7; Supplier Part Number 1: 9237666; Supplier 1: Farnell; ComponentLink1Description: Manufacturer Website; ComponentLink1URL: http://www.yageo.com; Supplier 2: Digi-Key; Supplier Part Number 2: 311-2.70KCRCT-ND
footprint RES_SM0805_YAGEORC_N (Resistor, Yageo RC_L, SM0805, IPC Medium Density)
pins: 1, 2

## RC0805FR-072M2L
designator R?, comment 2M2
RES 2M2 SM0805 YAGEO RC_L; Manufacturer Part Number: RC0805FR-072M2L; Power (Watts): 0.125; Resistance (Ohms): 2200000; Tolerance (%): 1; Category: Resistor; Manufacturer: Yageo; Package: 0805; Value: 2M2; Supplier Part Number 1: 9238034; Supplier 1: Farnell; ComponentLink1Description: Manufacturer Website; ComponentLink1URL: http://www.yageo.com; Supplier 2: Digi-Key; Supplier Part Number 2: 311-2.20MCRCT-ND
footprint RES_SM0805_YAGEORC_N (Resistor, Yageo RC_L, SM0805, IPC Medium Density)
pins: 1, 2

## RC0805FR-072M7L
designator R?, comment 2M7
RES 2M7 SM0805 YAGEO RC_L; Manufacturer Part Number: RC0805FR-072M7L; Power (Watts): 0.125; Resistance (Ohms): 2700000; Tolerance (%): 1; Category: Resistor; Manufacturer: Yageo; Package: 0805; Value: 2M7; Supplier Part Number 1: 9238042; Supplier 1: Farnell; ComponentLink1Description: Manufacturer Website; ComponentLink1URL: http://www.yageo.com; Supplier 2: Digi-Key
footprint RES_SM0805_YAGEORC_N (Resistor, Yageo RC_L, SM0805, IPC Medium Density)
pins: 1, 2

## RC0805FR-073K3L
designator R?, comment 3K3
RES 3K3 SM0805 YAGEO RC_L; Manufacturer Part Number: RC0805FR-073K3L; Power (Watts): 0.125; Resistance (Ohms): 3300; Tolerance (%): 1; Category: Resistor; Manufacturer: Yageo; Package: 0805; Value: 3K3; Supplier Part Number 1: 9237682; Supplier 1: Farnell; ComponentLink1Description: Manufacturer Website; ComponentLink1URL: http://www.yageo.com; Supplier 2: Digi-Key; Supplier Part Number 2: 311-3.30KCRCT-ND
footprint RES_SM0805_YAGEORC_N (Resistor, Yageo RC_L, SM0805, IPC Medium Density)
pins: 1, 2

## RC0805FR-073K9L
designator R?, comment 3K9
RES 3K9 SM0805 YAGEO RC_L; Manufacturer Part Number: RC0805FR-073K9L; Power (Watts): 0.125; Resistance (Ohms): 3900; Tolerance (%): 1; Category: Resistor; Manufacturer: Yageo; Package: 0805; Value: 3K9; Supplier Part Number 1: 9237690; Supplier 1: Farnell; ComponentLink1Description: Manufacturer Website; ComponentLink1URL: http://www.yageo.com; Supplier 2: Digi-Key; Supplier Part Number 2: 311-3.90KCRCT-ND
footprint RES_SM0805_YAGEORC_N (Resistor, Yageo RC_L, SM0805, IPC Medium Density)
pins: 1, 2

## RC0805FR-073M3L
designator R?, comment 3M3
RES 3M3 SM0805 YAGEO RC_L; Manufacturer Part Number: RC0805FR-073M3L; Power (Watts): 0.125; Resistance (Ohms): 3300000; Tolerance (%): 1; Category: Resistor; Manufacturer: Yageo; Package: 0805; Value: 3M3; Supplier Part Number 1: 9238050; Supplier 1: Farnell; ComponentLink1Description: Manufacturer Website; ComponentLink1URL: http://www.yageo.com; Supplier 2: Digi-Key; Supplier Part Number 2: 311-3.30MCRCT-ND
footprint RES_SM0805_YAGEORC_N (Resistor, Yageo RC_L, SM0805, IPC Medium Density)
pins: 1, 2

## RC0805FR-073M9L
designator R?, comment 3M9
RES 3M9 SM0805 YAGEO RC_L; Manufacturer Part Number: RC0805FR-073M9L; Power (Watts): 0.125; Resistance (Ohms): 3900000; Tolerance (%): 1; Category: Resistor; Manufacturer: Yageo; Package: 0805; Value: 3M9; Supplier Part Number 1: 9238069; Supplier 1: Farnell; ComponentLink1Description: Manufacturer Website; ComponentLink1URL: http://www.yageo.com; Supplier 2: Digi-Key
footprint RES_SM0805_YAGEORC_N (Resistor, Yageo RC_L, SM0805, IPC Medium Density)
pins: 1, 2

## RC0805FR-074K7L
designator R?, comment 4K7
RES 4K7 SM0805 YAGEO RC_L; Manufacturer Part Number: RC0805FR-074K7L; Power (Watts): 0.125; Resistance (Ohms): 4700; Tolerance (%): 1; Category: Resistor; Manufacturer: Yageo; Package: 0805; Value: 4K7; Supplier Part Number 1: 9237704; Supplier 1: Farnell; ComponentLink1Description: Manufacturer Website; ComponentLink1URL: http://www.yageo.com; Supplier 2: Digi-Key; Supplier Part Number 2: 311-4.70KCRCT-ND
footprint RES_SM0805_YAGEORC_N (Resistor, Yageo RC_L, SM0805, IPC Medium Density)
pins: 1, 2

## RC0805FR-074M7L
designator R?, comment 4M7
RES 4M7 SM0805 YAGEO RC_L; Manufacturer Part Number: RC0805FR-074M7L; Power (Watts): 0.125; Resistance (Ohms): 4700000; Tolerance (%): 1; Category: Resistor; Manufacturer: Yageo; Package: 0805; Value: 4M7; Supplier Part Number 1: 9238077; Supplier 1: Farnell; ComponentLink1Description: Manufacturer Website; ComponentLink1URL: http://www.yageo.com; Supplier 2: Digi-Key; Supplier Part Number 2: 311-4.70MCRCT-ND
footprint RES_SM0805_YAGEORC_N (Resistor, Yageo RC_L, SM0805, IPC Medium Density)
pins: 1, 2

## RC0805FR-075K6L
designator R?, comment 5K6
RES 5K6 SM0805 YAGEO RC_L; Manufacturer Part Number: RC0805FR-075K6L; Power (Watts): 0.125; Resistance (Ohms): 5600; Tolerance (%): 1; Category: Resistor; Manufacturer: Yageo; Package: 0805; Value: 5K6; Supplier Part Number 1: 9237712; Supplier 1: Farnell; ComponentLink1Description: Manufacturer Website; ComponentLink1URL: http://www.yageo.com; Supplier 2: Digi-Key; Supplier Part Number 2: 311-5.60KCRCT-ND
footprint RES_SM0805_YAGEORC_N (Resistor, Yageo RC_L, SM0805, IPC Medium Density)
pins: 1, 2

## RC0805FR-075M6L
designator R?, comment 5M6
RES 5M6 SM0805 YAGEO RC_L; Manufacturer Part Number: RC0805FR-075M6L; Power (Watts): 0.125; Resistance (Ohms): 5600000; Tolerance (%): 1; Category: Resistor; Manufacturer: Yageo; Package: 0805; Value: 5M6; Supplier Part Number 1: 9238085; Supplier 1: Farnell; ComponentLink1Description: Manufacturer Website; ComponentLink1URL: http://www.yageo.com; Supplier 2: Digi-Key
footprint RES_SM0805_YAGEORC_N (Resistor, Yageo RC_L, SM0805, IPC Medium Density)
pins: 1, 2

## RC0805FR-076K8L
designator R?, comment 6K8
RES 6K8 SM0805 YAGEO RC_L; Manufacturer Part Number: RC0805FR-076K8L; Power (Watts): 0.125; Resistance (Ohms): 6800; Tolerance (%): 1; Category: Resistor; Manufacturer: Yageo; Package: 0805; Value: 6K8; Supplier Part Number 1: 9237739; Supplier 1: Farnell; ComponentLink1Description: Manufacturer Website; ComponentLink1URL: http://www.yageo.com; Supplier 2: Digi-Key; Supplier Part Number 2: 311-6.80KCRCT-ND
footprint RES_SM0805_YAGEORC_N (Resistor, Yageo RC_L, SM0805, IPC Medium Density)
pins: 1, 2

## RC0805FR-076M8L
designator R?, comment 6M8
RES 6M8 SM0805 YAGEO RC_L; Manufacturer Part Number: RC0805FR-076M8L; Power (Watts): 0.125; Resistance (Ohms): 6800000; Tolerance (%): 1; Category: Resistor; Manufacturer: Yageo; Package: 0805; Value: 6M8; Supplier Part Number 1: 9238093; Supplier 1: Farnell; ComponentLink1URL: http://www.yageo.com; ComponentLink1Description: Manufacturer Website; Supplier 2: Digi-Key
footprint RES_SM0805_YAGEORC_N (Resistor, Yageo RC_L, SM0805, IPC Medium Density)
pins: 1, 2

## RC0805FR-078K2L
designator R?, comment 8K2
RES 8K2 SM0805 YAGEO RC_L; Manufacturer Part Number: RC0805FR-078K2L; Power (Watts): 0.125; Resistance (Ohms): 8200; Tolerance (%): 1; Category: Resistor; Manufacturer: Yageo; Package: 0805; Value: 8K2; Supplier Part Number 1: 9237747; Supplier 1: Farnell; ComponentLink1Description: Manufacturer Website; ComponentLink1URL: http://www.yageo.com; Supplier 2: Digi-Key; Supplier Part Number 2: 311-8.20KCRCT-ND
footprint RES_SM0805_YAGEORC_N (Resistor, Yageo RC_L, SM0805, IPC Medium Density)
pins: 1, 2

## RC0805FR-078M2L
designator R?, comment 8M2
RES 8M2 SM0805 YAGEO RC_L; Manufacturer Part Number: RC0805FR-078M2L; Power (Watts): 0.125; Resistance (Ohms): 8200000; Tolerance (%): 1; Category: Resistor; Manufacturer: Yageo; Package: 0805; Value: 8M2; Supplier 1: Farnell; ComponentLink1URL: http://www.yageo.com; ComponentLink1Description: Manufacturer Website; Supplier 2: Digi-Key
footprint RES_SM0805_YAGEORC_N (Resistor, Yageo RC_L, SM0805, IPC Medium Density)
pins: 1, 2

## RC0805FR-0710KL
designator R?, comment 10K
RES 10K SM0805 YAGEO RC_L; Manufacturer Part Number: RC0805FR-0710KL; Power (Watts): 0.125; Resistance (Ohms): 10000; Tolerance (%): 1; Category: Resistor; Manufacturer: Yageo; Package: 0805; Value: 10K; Supplier Part Number 1: 9237755; Supplier 1: Farnell; ComponentLink1Description: Manufacturer Website; ComponentLink1URL: http://www.yageo.com; Supplier 2: Digi-Key; Supplier Part Number 2: 311-10.0KCRCT-ND; Datasheet: https://www.yageo.com/upload/media/product/app/datasheet/rchip/pyu-rc_group_51_rohs_l.pdf
footprint RES_SM0805_YAGEORC_N (Resistor, Yageo RC_L, SM0805, IPC Medium Density)
pins: 1, 2

## RC0805FR-0710ML
designator R?, comment 10M
RES 10M SM0805 YAGEO RC_L; Manufacturer Part Number: RC0805FR-0710ML; Power (Watts): 0.125; Resistance (Ohms): 10000000; Tolerance (%): 1; Category: Resistor; Manufacturer: Yageo; Package: 0805; Value: 10M; Supplier Part Number 1: 9238115; Supplier 1: Farnell; ComponentLink1URL: http://www.yageo.com; ComponentLink1Description: Manufacturer Website; Supplier 2: Digi-Key; Supplier Part Number 2: 311-10.0MCRCT-ND
footprint RES_SM0805_YAGEORC_N (Resistor, Yageo RC_L, SM0805, IPC Medium Density)
pins: 1, 2